# EAGLE library part SD_CARD_SLOT (library MF_Connectors)
Library: MF_Connectors Description: SD Card Connector
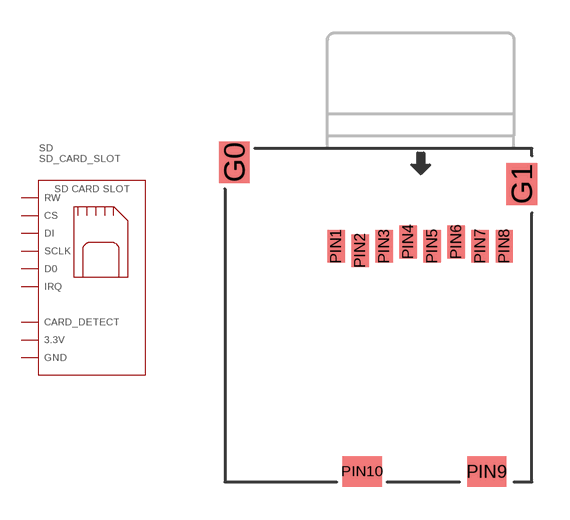
[diagram p0: symbol with the pads of MICROSDSLOT-RIGHT; footprint MICROSDSLOT-RIGHT]

Designator prefix SD

## SD_CARD_SLOT_MICRO_RIGHT  [MICROSDSLOT-RIGHT]
G0  GND  pwr
G1  GND  pwr
PIN1  RW
PIN2  CS
PIN3  DI
PIN4  3.3V  pwr
PIN5  SCLK
PIN6  GND  pwr
PIN7  D0
PIN8  IRQ
PIN9  CRD_DTCT
PIN10  CRD_DTCT

## Footprint MICROSDSLOT-RIGHT (pad centres in mm)
Description: Package for Micro SD Card Slot connector. Based on 4uconnector 15882.
smd 1.4 x 1.9: G0 -6.589,7.001; G1 6.561,6.001
smd 0.8 x 1.5: PIN1 -1.939,3.151; PIN2 -0.839,2.951; PIN3 0.261,3.151; PIN4 1.361,3.351; PIN5 2.461,3.151; PIN6 3.561,3.351; PIN7 4.661,3.151; PIN8 5.761,3.151
smd 1.8 x 1.4: PIN9 4.961,-7.149; PIN10 -0.739,-7.149